# EAGLE library part HEADER_18P (library Bauteile)
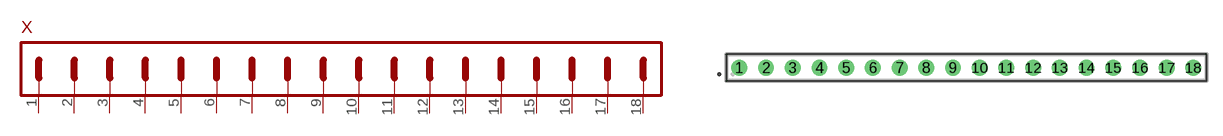
[diagram p187: symbol with the pads of HEADER_18P_1ROW_RM2.54MM_THT; footprint HEADER_18P_1ROW_RM2.54MM_THT]

Designator prefix X

## HEADER_18P(RM2.54MM_1ROW_THT)  [HEADER_18P_1ROW_RM2.54MM_THT]
1  PIN1
2  PIN2
3  PIN3
4  PIN4
5  PIN5
6  PIN6
7  PIN7
8  PIN8
9  PIN9
10  PIN10
11  PIN11
12  PIN12
13  PIN13
14  PIN14
15  PIN15
16  PIN16
17  PIN17
18  PIN18

## Footprint HEADER_18P_1ROW_RM2.54MM_THT (pad centres in mm)
drill 1: 1 -21.59,0; 2 -19.05,0; 3 -16.51,0; 4 -13.97,0; 5 -11.43,0; 6 -8.89,0; 7 -6.35,0; 8 -3.81,0; 9 -1.27,0; 10 1.27,0; 11 3.81,0; 12 6.35,0; 13 8.89,0; 14 11.43,0; 15 13.97,0; 16 16.51,0; 17 19.05,0; 18 21.59,0